# Altium integrated library ISSI SRAM Synchronous SRAM No-Wait(ZBT).IntLib: 1246 symbols (part 139 of 152)
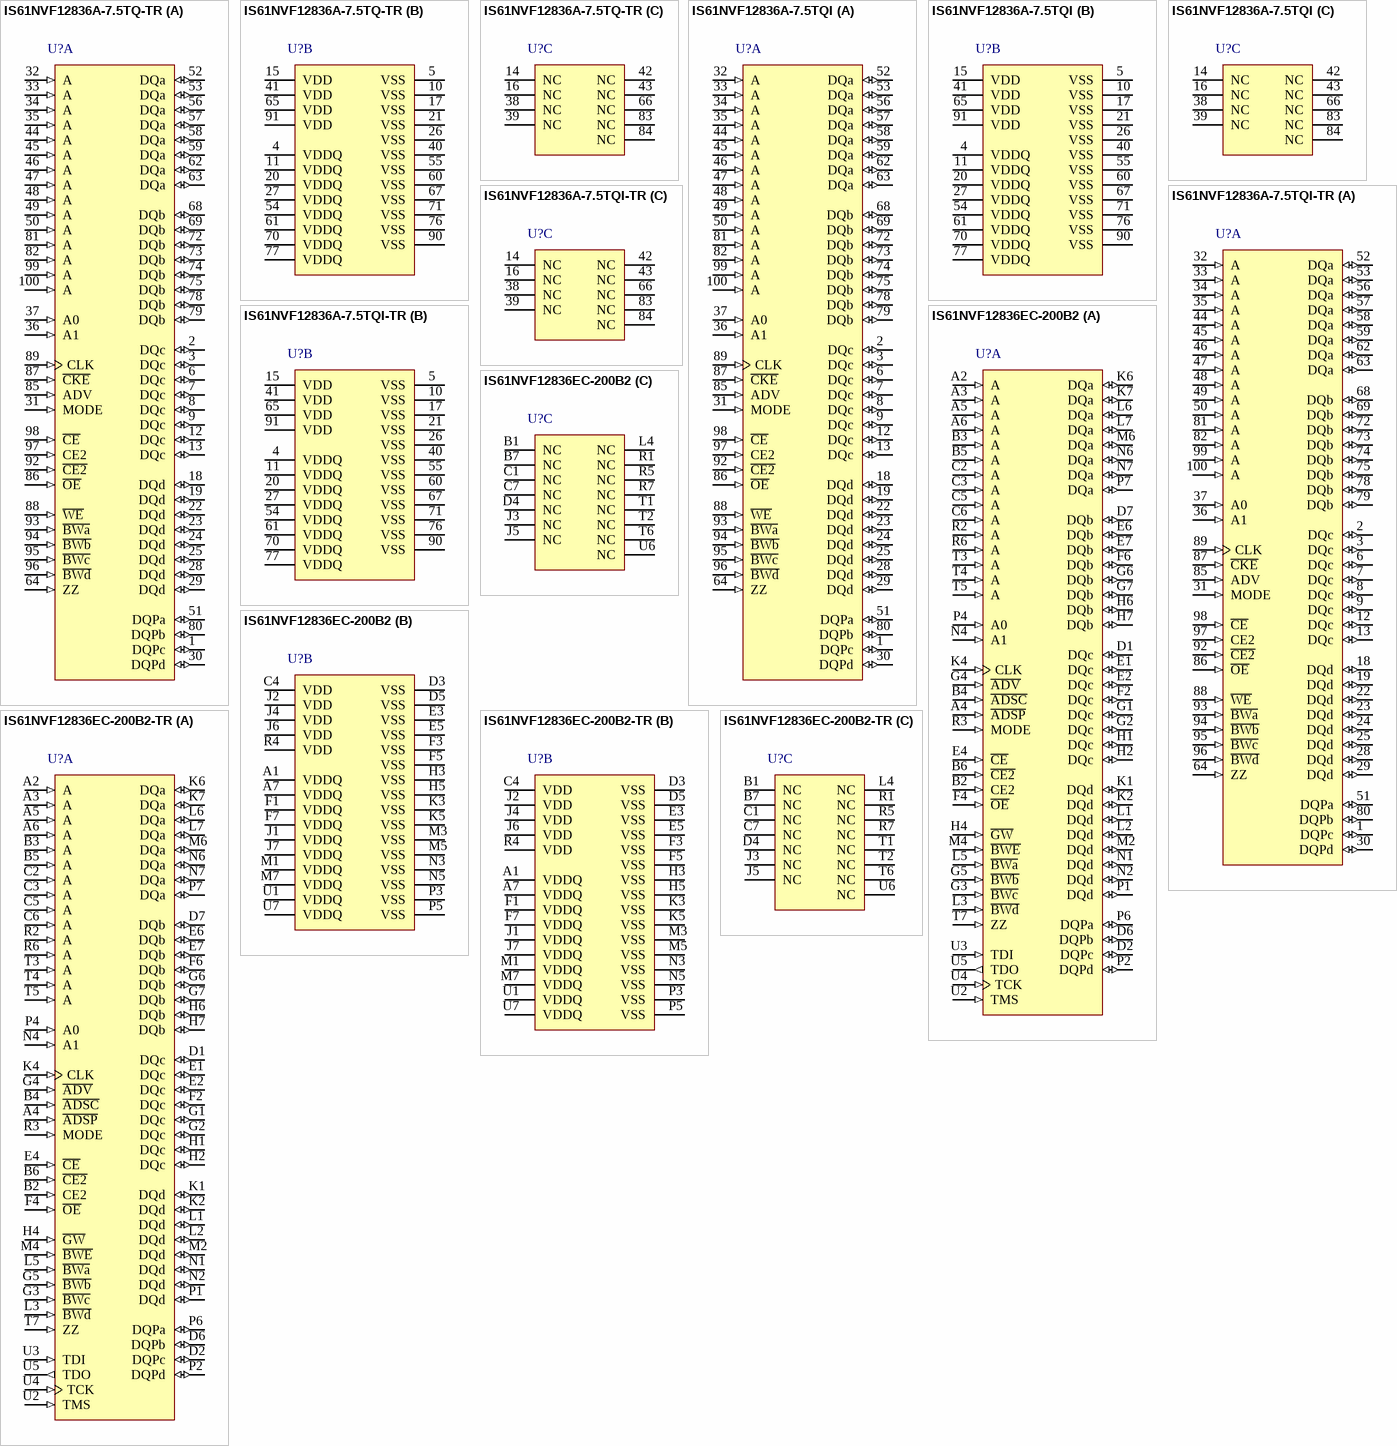
[diagram p408: symbols IS61NVF12836A-7.5TQ-TR to IS61NVF12836EC-200B2-TR]

## IS61NVF12836EC-200B2
designator U?
4 M Flow Through 'No Wait' State Bus Synchronous SRAM with ECC, 128 K x 36, 0 to 70 degC, 119-Pin BGA (PBGA-119); Manufacturer: Integrated Silicon Solution Inc (ISSI); PartNumber: IS61NVF12836EC-200B2; Density: 4M; Packing: Tube / Tray; Vcc: 2.5 V; DatasheetVersion: Rev. A; PackageVersion: Rev. D, 10/2008; PackageReference: PBGA-119; PackageDescription: 119-Pin 14 x 22 mm PBGA, Pitch 1.27 mm; Organization: 128Kx36; VccQ: 2.5 V; Mounting Technology: Surface Mount; Code_JEDEC: MS-028; ComponentLink1Description: Manufacturer URL; ComponentLink1URL: http://www.issi.com/US/index.shtml; ComponentLink2Description: Datasheet; ComponentLink2URL: http://www.issi.com/WW/pdf/61-64NLF_NVF12832EC-12836EC-25618EC.pdf; ComponentLink3Description: Package Specification; ComponentLink3URL: http://www.issi.com/WW/pdf/61NLP_NVP25636A_51218A.pdf
footprint ISSI-PBGA-119-14000X22000DE (BGA, 119-Balls, Body 22x14mm, Pitch 1.27mm)
part A pins: A2 A (in) "Synchronous Address Input", A3 A (in) "Synchronous Address Input", A4 ~{ADSP} (in) "Synchronous Address Status Processor", A5 A (in) "Synchronous Address Input", A6 A (in) "Synchronous Address Input", B2 CE2 (in) "Synchronous Chip Enable", B3 A (in) "Synchronous Address Input", B4 ~{ADSC} (in) "Synchronous Address Status Controller", B5 A (in) "Synchronous Address Input", B6 ~{CE2} (in) "Synchronous Chip Enable", C2 A (in) "Synchronous Address Input", C3 A (in) "Synchronous Address Input", C5 A (in) "Synchronous Address Input", C6 A (in) "Synchronous Address Input", D1 DQc (io) "Synchronous Data Input/Output", D2 DQPc (io) "Synchronous Parity Data I/O", D6 DQPb (io) "Synchronous Parity Data I/O", D7 DQb (io) "Synchronous Data Input/Output", E1 DQc (io) "Synchronous Data Input/Output", E2 DQc (io) "Synchronous Data Input/Output", E4 ~{CE} (in) "Synchronous Chip Enable", E6 DQb (io) "Synchronous Data Input/Output", E7 DQb (io) "Synchronous Data Input/Output", F2 DQc (io) "Synchronous Data Input/Output", F4 ~{OE} (in) "Output Enable", F6 DQb (io) "Synchronous Data Input/Output", G1 DQc (io) "Synchronous Data Input/Output", G2 DQc (io) "Synchronous Data Input/Output", G3 ~{BWc} (in) "Synchronous Byte Write Input", G4 ~{ADV} (in) "Synchronous Burst Address Advance", G5 ~{BWb} (in) "Synchronous Byte Write Input", G6 DQb (io) "Synchronous Data Input/Output", G7 DQb (io) "Synchronous Data Input/Output", H1 DQc (io) "Synchronous Data Input/Output", H2 DQc (io) "Synchronous Data Input/Output", H4 ~{GW} (in) "Synchronous Global Write Enable", H6 DQb (io) "Synchronous Data Input/Output", H7 DQb (io) "Synchronous Data Input/Output", K1 DQd (io) "Synchronous Data Input/Output", K2 DQd (io) "Synchronous Data Input/Output", K4 CLK (in) "Synchronous Clock", K6 DQa (io) "Synchronous Data Input/Output", K7 DQa (io) "Synchronous Data Input/Output", L1 DQd (io) "Synchronous Data Input/Output", L2 DQd (io) "Synchronous Data Input/Output", L3 ~{BWd} (in) "Synchronous Byte Write Input", L5 ~{BWa} (in) "Synchronous Byte Write Input", L6 DQa (io) "Synchronous Data Input/Output", L7 DQa (io) "Synchronous Data Input/Output", M2 DQd (io) "Synchronous Data Input/Output", M4 ~{BWE} (in) "Synchronous Byte Write Enable", M6 DQa (io) "Synchronous Data Input/Output", N1 DQd (io) "Synchronous Data Input/Output", N2 DQd (io) "Synchronous Data Input/Output", N4 A1 (in) "Synchronous Burst Address Input", N6 DQa (io) "Synchronous Data Input/Output", N7 DQa (io) "Synchronous Data Input/Output", P1 DQd (io) "Synchronous Data Input/Output", P2 DQPd (io) "Synchronous Parity Data I/O", P4 A0 (in) "Synchronous Burst Address Input", P6 DQPa (io) "Synchronous Parity Data I/O", P7 DQa (io) "Synchronous Data Input/Output", R2 A (in) "Synchronous Address Input", R3 MODE (in) "Burst Sequence Selection", R6 A (in) "Synchronous Address Input", T3 A (in) "Synchronous Address Input", T4 A (in) "Synchronous Address Input", T5 A (in) "Synchronous Address Input", T7 ZZ (in) "Power Sleep Mode", U2 TMS (in) "JTAG Pin", U3 TDI (in) "JTAG Pin", U4 TCK (in) "JTAG Pin", U5 TDO (out) "JTAG Pin"
part B pins: A1 VDDQ (power) "I/O Power Supply", A7 VDDQ (power) "I/O Power Supply", C4 VDD (power) "Power Supply", D3 VSS (power) "Ground", D5 VSS (power) "Ground", E3 VSS (power) "Ground", E5 VSS (power) "Ground", F1 VDDQ (power) "I/O Power Supply", F3 VSS (power) "Ground", F5 VSS (power) "Ground", F7 VDDQ (power) "I/O Power Supply", H3 VSS (power) "Ground", H5 VSS (power) "Ground", J1 VDDQ (power) "I/O Power Supply", J2 VDD (power) "Power Supply", J4 VDD (power) "Power Supply", J6 VDD (power) "Power Supply", J7 VDDQ (power) "I/O Power Supply", K3 VSS (power) "Ground", K5 VSS (power) "Ground", M1 VDDQ (power) "I/O Power Supply", M3 VSS (power) "Ground", M5 VSS (power) "Ground", M7 VDDQ (power) "I/O Power Supply", N3 VSS (power) "Ground", N5 VSS (power) "Ground", P3 VSS (power) "Ground", P5 VSS (power) "Ground", R4 VDD (power) "Power Supply", U1 VDDQ (power) "I/O Power Supply", U7 VDDQ (power) "I/O Power Supply"
part C pins: B1 NC "No Connect", B7 NC "No Connect", C1 NC "No Connect", C7 NC "No Connect", D4 NC "No Connect", J3 NC "No Connect", J5 NC "No Connect", L4 NC "No Connect", R1 NC "No Connect", R5 NC "No Connect", R7 NC "No Connect", T1 NC "No Connect", T2 NC "No Connect", T6 NC "No Connect", U6 NC "No Connect"